# Altium schematic symbol library ST.SchLib: 2 symbols
Pins are listed as number, name and electrical type; pins without a type are passive.

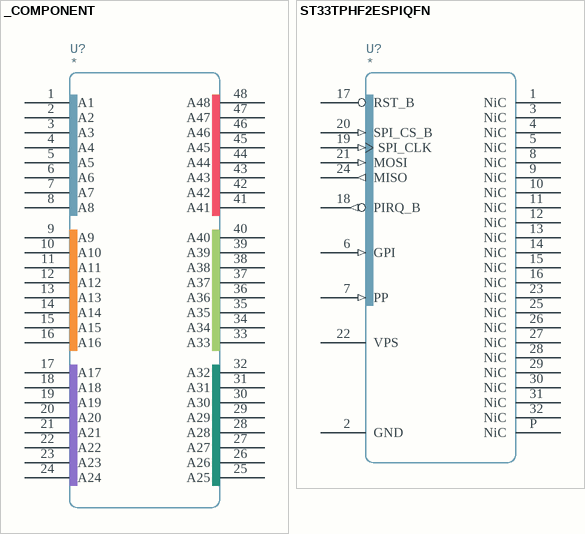
[diagram p0: symbols _COMPONENT to ST33TPHF2ESPIQFN]

## _COMPONENT
designator U?
pins: 1 A1, 2 A2, 3 A3, 4 A4, 5 A5, 6 A6, 7 A7, 8 A8, 9 A9, 10 A10, 11 A11, 12 A12, 13 A13, 14 A14, 15 A15, 16 A16, 17 A17, 18 A18, 19 A19, 20 A20, 21 A21, 22 A22, 23 A23, 24 A24, 25 A25, 26 A26, 27 A27, 28 A28, 29 A29, 30 A30, 31 A31, 32 A32, 33 A33, 34 A34, 35 A35, 36 A36, 37 A37, 38 A38, 39 A39, 40 A40, 41 A41, 42 A42, 43 A43, 44 A44, 45 A45, 46 A46, 47 A47, 48 A48

## ST33TPHF2ESPIQFN
designator U?
pins: 1 NiC, 2 GND, 3 NiC, 4 NiC, 5 NiC, 6 GPI (in), 7 PP (in), 8 NiC, 9 NiC, 10 NiC, 11 NiC, 12 NiC, 13 NiC, 14 NiC, 15 NiC, 16 NiC, 17 RST_B, 18 PIRQ_B (out), 19 SPI_CLK (in), 20 SPI_CS_B (in), 21 MOSI (in), 22 VPS, 23 NiC, 24 MISO (out), 25 NiC, 26 NiC, 27 NiC, 28 NiC, 29 NiC, 30 NiC, 31 NiC, 32 NiC, P NiC